# Altium integrated library 08055C104KAT2A.IntLib: 1 symbol
Pins are listed as number, name and electrical type; pins without a type are passive.

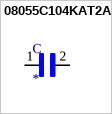
[diagram p0: symbol 08055C104KAT2A]

## 08055C104KAT2A
designator C
0.1ÂµF Â±10% 50V Ceramic Capacitor X7R 0805 _2012 Metric_; MF: AVX Interconnect / Elco; MP: 08055C104KAT2A; SnapEDA_Link: https://www.snapeda.com/parts/08055C104KAT2A/AVX%20Interconnect%20/%20Elco/view-part/78587/?ref=snap; Digi-Key_Part_Number: 478-1395-1-ND; Value: *; Package: 2012 AVX; Digi-Key_Purchase_URL: https://www.digikey.com/product-detail/en/avx-corporation/08055C104KAT2A/478-1395-1-ND/564427?utm_source=snapeda&utm_medium=aggregator&utm_campaign=symbol
footprint CAPC2012X94N
pins: 1, 2